# Altium footprint library Soil_Moisture_Sensor.PcbLib: 20 footprints (part 1 of 2)
Each footprint in its own frame and in the unit in brackets; x right, y up, seen from the top. Pads: shape width x height; smd on the part's side, far side on the other; paste and mask are expansions set on the pad; w line width, h text height; cw(c..) or ccw(c..) is an arc to the next point about the centre after c.
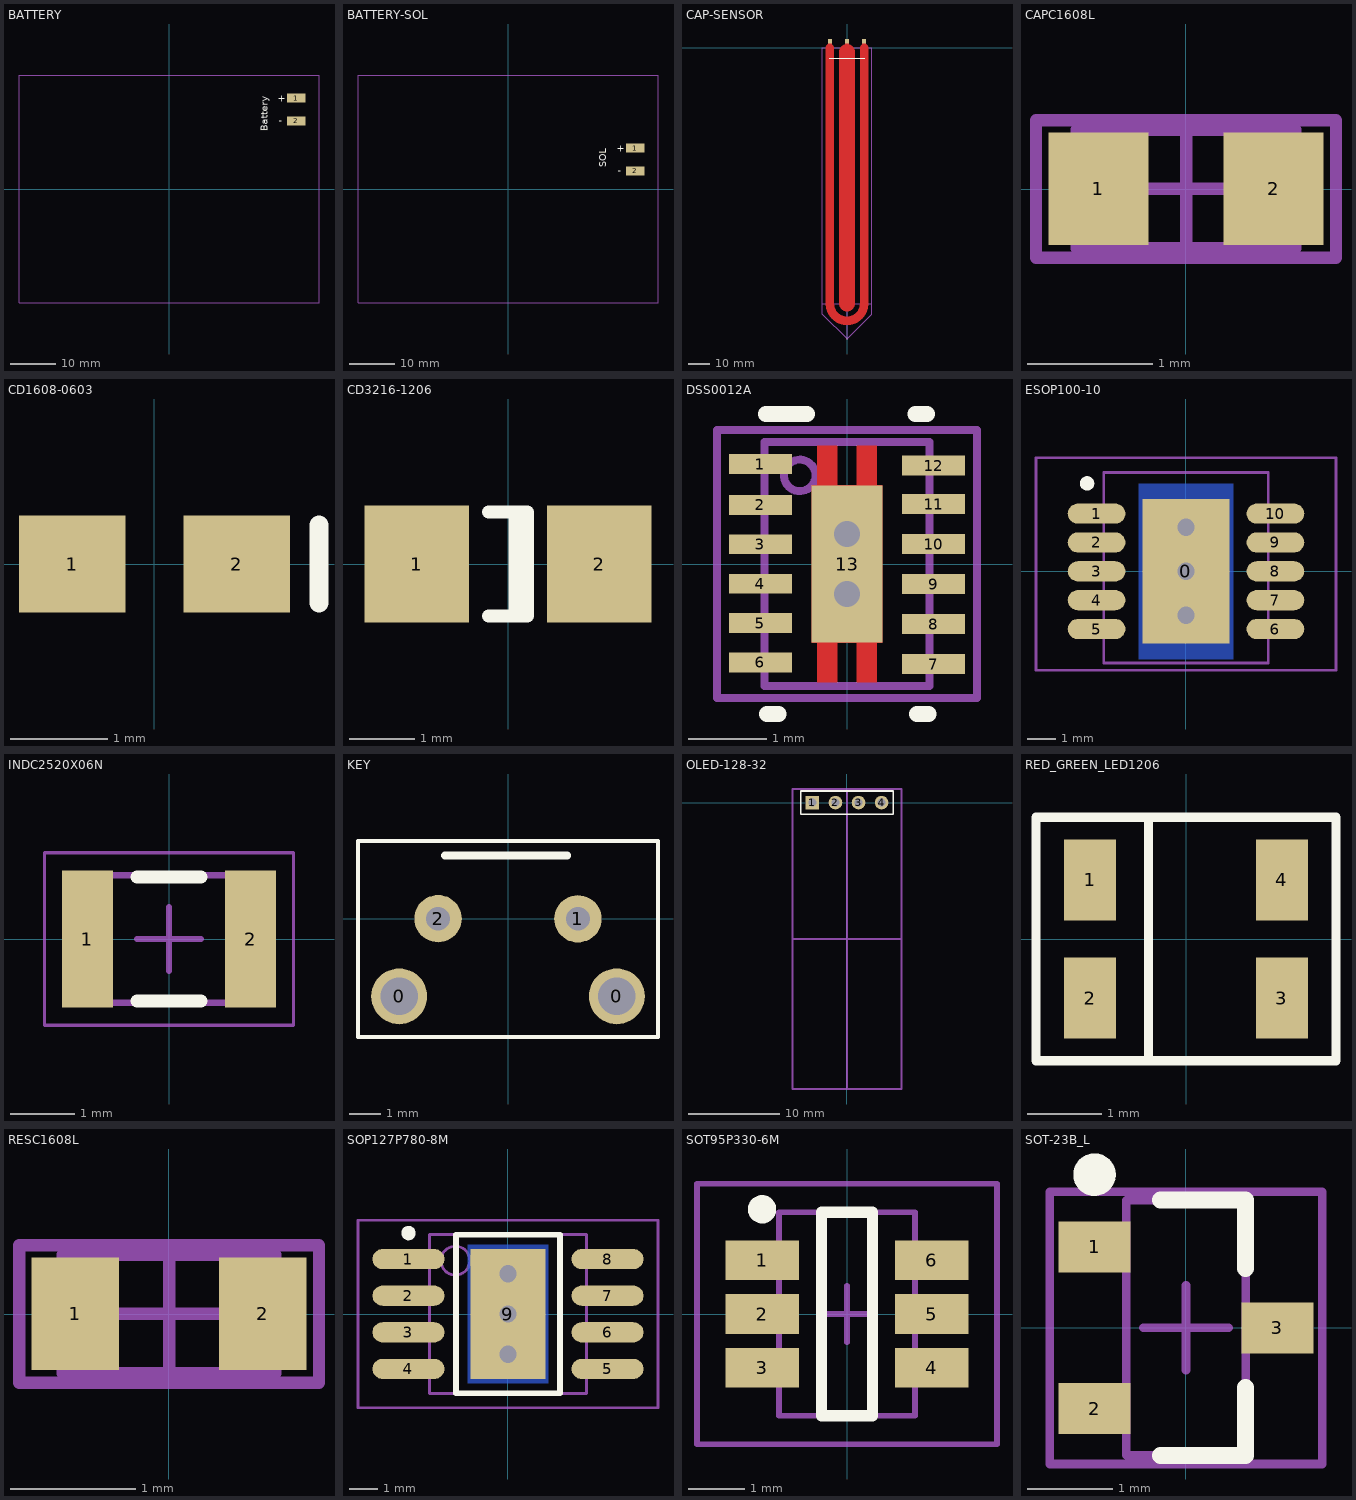
[diagram p0: the footprints below, top view; thin cyan lines are the x and y axes]

## BATTERY [mm] "BATTERY"
pads (2):
  rect 4x2 smd: 1(28,20) 2(28,15)
Top Overlay:
  text "+" at 23.876,19.177 h1.52
  text "-" at 24.13,14.351 h1.52
  text "Battery" at 21.717,12.7 h1.52
Mechanical 15:
  lines w0.254: -33,-25 33,-25 33,25 -33,25 -33,-25

## BATTERY-SOL [mm] "BATTERY"
pads (2):
  rect 4x2 smd: 1(28,9) 2(28,4)
Top Overlay:
  text "SOL" at 21.59,4.779 h1.52
  text "-" at 24.13,3.351 h1.52
  text "+" at 23.876,8.177 h1.52
Mechanical 15:
  lines w0.254: -33,-25 -33,25 33,25 33,-25 -33,-25

## CAP-SENSOR [mm] "CAP-SENSOR"
pads (3):
  rect 2x2 smd mask+0.102: 1(-8,3)
  rect 2x2 smd: 2(8,3) 3(0,3)
Top Layer:
  lines w2: -8.001,2.921 -8,0 ; 0,0 0,2.921 ; 8,0 8,3.048
  lines w4: -8,0 -8,-120 ccw(c0,-120) 8,-120 8,0
  lines w7.5: 0,-120 0,-2
Top Overlay:
  lines w0.254: -8.25,-5 8.25,-5 ; 0,-136.525 0,-136.5 0,-136.525
Mechanical 15:
  lines w0.254: -11.5,-125.025 -11.5,-120 ; -11,0 -11.5,0 ; 0,-120 0,-136.5 ; 11,0 11.5,0 ; -11.5,-120 11.5,-120 11.5,0 ; -11.5,-120 -11.5,0 ; -11.5,0 11.5,0 ; -11.5,0 -11.5,-125 0,-136.5 ; 0,-136.5 11.5,-125 11.5,0

## CAPC1608L [mm] "Chip Capacitor, Body 1.6x0.8mm, IPC High Density"
height 0.85
pads (2):
  rect 0.8x0.9 smd: 1(-0.7,0) 2(0.7,0)
Mechanical 13:
  lines w0.1: -0.875,-0.475 0.875,-0.475 0.875,0.475 -0.875,0.475 -0.875,-0.475
Mechanical 15:
  lines w0.1: -0.475,0 0.475,0 ; 0,-0.475 0,0.475 ; -1.2,-0.55 1.2,-0.55 1.2,0.55 -1.2,0.55 -1.2,-0.55
3D body: height 0.85, standoff 0, extent -0.875,-0.475 0.875,0.475

## CD1608-0603 [mm] "Chip Diode; Body 1.6 x 0.8 mm (LxW typ)"
height 0.85
pads (2):
  rect 1.1x1 smd: 1(-0.85,0) 2(0.85,0)
Top Overlay:
  lines w0.2: 1.7,-0.4 1.7,0.4

## CD3216-1206 [mm] "Chip Diode; Body 3.2 x 1.6 mm (LxW typ)"
height 1.35
pads (2):
  rect 1.6x1.8 smd: 1(-1.4,0) 2(1.4,0)
Top Overlay:
  lines w0.2: -0.3,-0.8 0.3,-0.8 0.3,0.8 -0.3,0.8 ; 0.11,-0.8 0.11,0.8

## DSS0012A [mm]
pads (13):
  rect 0.8x0.25 smd paste+0 mask+0.051: 1(-1.1,1.27) 2(-1.1,0.75) 3(-1.1,0.25) 4(-1.1,-0.25) 5(-1.1,-0.75) 6(-1.1,-1.25) 7(1.1,-1.27) 8(1.1,-0.762) 9(1.1,-0.254) 10(1.1,0.254) 11(1.1,0.762) 12(1.1,1.25)
  rect 0.9x2 smd paste-0.45 mask+0.051: 13(0,0)
via 0,-0.381 diameter 0.66 hole 0.33
via 0,0.381 diameter 0.66 hole 0.33
Top Layer:
  region: -0.125,-1.5 -0.375,-1.5 -0.375,-1 -0.45,-1 -0.45,1 -0.375,1 -0.375,1.5 -0.125,1.5 -0.125,1 0.125,1 0.125,1.5 0.375,1.5 0.375,1 0.45,1 0.45,-1 0.375,-1 0.375,-1.5 0.125,-1.5 0.125,-1 -0.125,-1
Top Overlay:
  lines w0.2: -1.033,1.905 -0.508,1.905 ; -1.016,-1.905 -0.866,-1.905 ; 0.866,1.905 1.016,1.905 ; 0.889,-1.905 1.039,-1.905
Top Paste:
  region: -0.427,0.895 -0.427,-0.894 0.427,-0.894 0.427,0.895
Top Solder:
  region: -0.125,-1.551 -0.375,-1.551 -0.385,-1.55 -0.394,-1.547 -0.403,-1.542 -0.411,-1.536 -0.417,-1.528 -0.422,-1.519 -0.425,-1.51 -0.426,-1.5 -0.426,-1.051 -0.45,-1.051 -0.46,-1.05 -0.469,-1.047 -0.478,-1.042 -0.486,-1.036 -0.492,-1.028 -0.497,-1.019 -0.5,-1.01 -0.501,-1 -0.501,1 -0.5,1.01 -0.497,1.019 -0.492,1.028 -0.486,1.036 -0.478,1.042 -0.469,1.047 -0.46,1.05 -0.45,1.051 -0.426,1.051 -0.426,1.5 -0.425,1.51 -0.422,1.519 -0.417,1.528 -0.411,1.536 -0.403,1.542 -0.394,1.547 -0.385,1.55 -0.375,1.551 -0.125,1.551 -0.115,1.55 -0.106,1.547 -0.097,1.542 -0.089,1.536 -0.083,1.528 -0.078,1.519 -0.075,1.51 -0.074,1.5 -0.074,1.051 0.074,1.051 0.074,1.5 0.075,1.51 0.078,1.519 0.083,1.528 0.089,1.536 0.097,1.542 0.106,1.547 0.115,1.55 0.125,1.551 0.375,1.551 0.385,1.55 0.394,1.547 0.403,1.542 0.411,1.536 0.417,1.528 0.422,1.519 0.425,1.51 0.426,1.5 0.426,1.051 0.45,1.051 0.46,1.05 0.469,1.047 0.478,1.042 0.486,1.036 0.492,1.028 0.497,1.019 0.5,1.01 0.501,1 0.501,-1 0.5,-1.01 0.497,-1.019 0.492,-1.028 0.486,-1.036 0.478,-1.042 0.469,-1.047 0.46,-1.05 0.45,-1.051 0.426,-1.051 0.426,-1.5 0.425,-1.51 0.422,-1.519 0.417,-1.528 0.411,-1.536 0.403,-1.542 0.394,-1.547 0.385,-1.55 0.375,-1.551 0.125,-1.551 0.115,-1.55 0.106,-1.547 0.097,-1.542 0.089,-1.536 0.083,-1.528 0.078,-1.519 0.075,-1.51 0.074,-1.5 0.074,-1.051 -0.074,-1.051 -0.074,-1.5 -0.075,-1.51 -0.078,-1.519 -0.083,-1.528 -0.089,-1.536 -0.097,-1.542 -0.106,-1.547 -0.115,-1.55
Mechanical 13:
  circle w0.1: c-0.6,1.125 r0.2
  lines w0.1: -1.05,-1.55 -1.05,1.55 1.05,1.55 1.05,-1.55 -1.05,-1.55
Mechanical 15:
  lines w0.1: -1.651,-1.7 1.651,-1.7 1.651,1.7 -1.651,1.7 -1.651,-1.7

## ESOP100-10 [mm] "10-Pin Small Outline Package 1.00 mm Pitch and Pad"
height 2.2
pads (11):
  rect 3x5 smd: 0(0,0)
  oval 2x0.7 smd: 1(-3.1,2) 2(-3.1,1) 3(-3.1,0) 4(-3.1,-1) 5(-3.1,-2) 6(3.1,-2) 7(3.1,-1) 8(3.1,0) 9(3.1,1) 10(3.1,2)
via 0,-1.524 diameter 1.1 hole 0.6
via 0,1.524 diameter 1.1 hole 0.6
via 0,0 diameter 1.1 hole 0.6
Bottom Layer:
  rectangle: -1.651,-3.048 1.651,3.048
Top Overlay:
  circle w0.25: c-3.429,3.048 r0.125
Bottom Solder:
  rectangle: -1.651,-3.048 1.651,3.048
Mechanical 13:
  lines w0.1: -2.85,-3.175 -2.85,3.429 2.85,3.429 2.85,-3.175 -2.85,-3.175
Mechanical 15:
  lines w0.1: -0.5,0 0.5,0 ; 0,-0.5 0,0.5 ; -5.2,-3.429 -5.2,3.937 5.2,3.937 5.2,-3.429 -5.2,-3.429
3D body: height 2.2, standoff 0, extent -2.85,-3.175 2.85,3.429

## INDC2520X06N [mm] "Chip Inductor, 2-Leads, Body 2.50x2.00mm, IPC Medium Density"
height 0.6
pads (2):
  rect 0.8x2.14 smd: 1(-1.28,0) 2(1.28,0)
Top Overlay:
  lines w0.2: -0.5,-0.97 0.5,-0.97 ; -0.5,0.97 0.5,0.97
Mechanical 13:
  lines w0.1: -1.25,-1 -1.25,1 1.25,1 1.25,-1 -1.25,-1
Mechanical 15:
  lines w0.05: -1.95,-1.35 -1.95,1.35 1.95,1.35 1.95,-1.35 -1.95,-1.35
  lines w0.1: -0.5,0 0.5,0 ; 0,-0.5 0,0.5
3D body: height 0.6, standoff 0, extent -0.95,-1 0.95,1
3D body: height 0.6, standoff 0, extent -1.25,-1 -0.95,1
3D body: height 0.6, standoff 0, extent 0.95,-1 1.25,1

## KEY [mm]
pads (4):
  round 1.8 hole 1.2: 0(-3.5,-2.5) 0(3.5,-2.5)
  round 1.524 hole 0.762: 1(2.25,-0.007) 2(-2.25,0)
Top Overlay:
  lines w0.127: -4.826,-3.81 4.826,-3.81 4.826,2.5 -4.826,2.5 -4.826,-3.81
  lines w0.254: -2.032,2.032 1.905,2.032

## OLED-128-32 [mm]
pads (4):
  rect 1.5x1.5 hole 0.9: 1(-3.81,0)
  round 1.5 hole 0.9: 2(-1.27,0) 3(1.27,0) 4(3.81,0)
Top Overlay:
  lines w0.2: -5.08,-1.27 5.08,-1.27 5.08,1.27 -5.08,1.27 -5.08,-1.27
Mechanical 15:
  lines w0.254: -6,-15 6,-15 ; 0,-31.5 0,1.5 ; -6,-31.5 6,-31.5 6,1.5 -6,1.5 -6,-31.5
  text "Gnd" at -4.572,-1.778 h1.52
  text "Vcc" at -1.905,-1.778 h1.52
  text "SCL" at 0.635,-1.778 h1.52
  text "SDA" at 3.175,-1.778 h1.52
  text "OLED 128X32" at 2.159,-8.382 h1.52

## RED_GREEN_LED1206 [mm]
pads (4):
  rect 0.7x1.1 smd: 1(-1.3,0.8) 2(-1.3,-0.8) 3(1.3,-0.8) 4(1.3,0.8)
Top Overlay:
  lines w0.128: -0.508,-1.651 -0.508,1.651 ; -2.032,-1.651 -2.032,1.651 2.032,1.651 2.032,-1.651 -2.032,-1.651

## RESC1608L [mm] "Chip Resistor, Body 1.6x0.8mm, IPC High Density"
height 0.6
pads (2):
  rect 0.7x0.9 smd: 1(-0.75,0) 2(0.75,0)
Mechanical 13:
  lines w0.1: -0.85,-0.475 0.85,-0.475 0.85,0.475 -0.85,0.475 -0.85,-0.475
Mechanical 15:
  lines w0.1: -0.475,0 0.475,0 ; 0,-0.475 0,0.475 ; -1.2,-0.55 1.2,-0.55 1.2,0.55 -1.2,0.55 -1.2,-0.55
3D body: height 0.6, standoff 0, extent -0.85,-0.475 0.85,0.475

## SOP127P780-8M [mm] "SOP, 8-Leads, Body 5.3x5.3mm, Pitch 1.27mm, IPC Low Density"
height 2.03
pads (9):
  oval 2.5x0.7 smd: 1(-3.45,1.905) 2(-3.45,0.635) 3(-3.45,-0.635) 4(-3.45,-1.905) 5(3.45,-1.905) 6(3.45,-0.635) 7(3.45,0.635) 8(3.45,1.905)
  rect 2.6x4.5 smd: 9(0,0)
via 0,0 diameter 1.1 hole 0.6
via 0,1.397 diameter 1.1 hole 0.6
via 0,-1.397 diameter 1.1 hole 0.6
Bottom Layer:
  rectangle: -1.397,-2.413 1.397,2.413
Top Overlay:
  circle w0.25: c-3.45,2.805 r0.125
  lines w0.2: -1.8,-2.75 -1.8,2.75 1.8,2.75 1.8,-2.75 -1.8,-2.75
Bottom Solder:
  rectangle: -1.524,-2.54 1.524,2.54
Mechanical 13:
  circle w0.1: c-1.825,1.85 r0.5
  lines w0.1: -2.725,-2.75 -2.725,2.75 2.725,2.75 2.725,-2.75 -2.725,-2.75
Mechanical 15:
  lines w0.1: -0.5,0 0.5,0 ; 0,-0.5 0,0.5 ; -5.2,-3.25 -5.2,3.25 5.2,3.25 5.2,-3.25 -5.2,-3.25
3D body: height 2.03, standoff 0, extent -2.725,-2.75 2.725,2.75

## SOT95P330-6M [mm]
pads (6):
  rect 1.3x0.7 smd: 1(-1.5,0.95) 2(-1.5,0) 3(-1.5,-0.95) 4(1.5,-0.95) 5(1.5,0) 6(1.5,0.95)
Top Overlay:
  circle w0.25: c-1.5,1.85 r0.125
  lines w0.2: -0.45,-1.8 -0.45,1.8 0.45,1.8 0.45,-1.8 -0.45,-1.8
Mechanical 13:
  lines w0.1: -1.2,-1.8 1.2,-1.8 1.2,1.8 -1.2,1.8 -1.2,-1.8
Mechanical 15:
  lines w0.1: -0.5,0 0.5,0 ; 0,-0.5 0,0.5 ; -2.65,-2.3 2.65,-2.3 2.65,2.3 -2.65,2.3 -2.65,-2.3
3D body: height 0, standoff 0, extent -1.2,-1.8 1.2,1.8

## SOT-23B_L [mm] "SOT23, 3-Leads, Body 2.9x1.3mm, Pitch 0.95mm, Lead Span 2.4mm, IPC High Density"
height 1.14
pads (3):
  rect 0.85x0.6 smd: 1(-1.075,0.95) 2(-1.075,-0.95) 3(1.075,0)
Top Overlay:
  circle w0.25: c-1.075,1.8 r0.125
  lines w0.2: -0.3,-1.5 0.7,-1.5 0.7,-0.7 ; -0.3,1.5 0.7,1.5 0.7,0.7
Mechanical 13:
  lines w0.1: -0.7,-1.5 -0.7,1.5 0.7,1.5 0.7,-1.5 -0.7,-1.5
Mechanical 15:
  lines w0.1: -0.5,0 0.5,0 ; 0,-0.5 0,0.5 ; -1.6,-1.6 -1.6,1.6 1.6,1.6 1.6,-1.6 -1.6,-1.6
3D body: height 1.14, standoff 0, extent -0.7,-1.5 0.7,1.5